# Altium footprint library Mako DSP PCB Footprint Library.PcbLib: 28 footprints (part 2 of 2)
Each footprint in its own frame and in the unit in brackets; x right, y up, seen from the top. Pads: shape width x height; smd on the part's side, far side on the other; paste and mask are expansions set on the pad; w line width, h text height; cw(c..) or ccw(c..) is an arc to the next point about the centre after c.
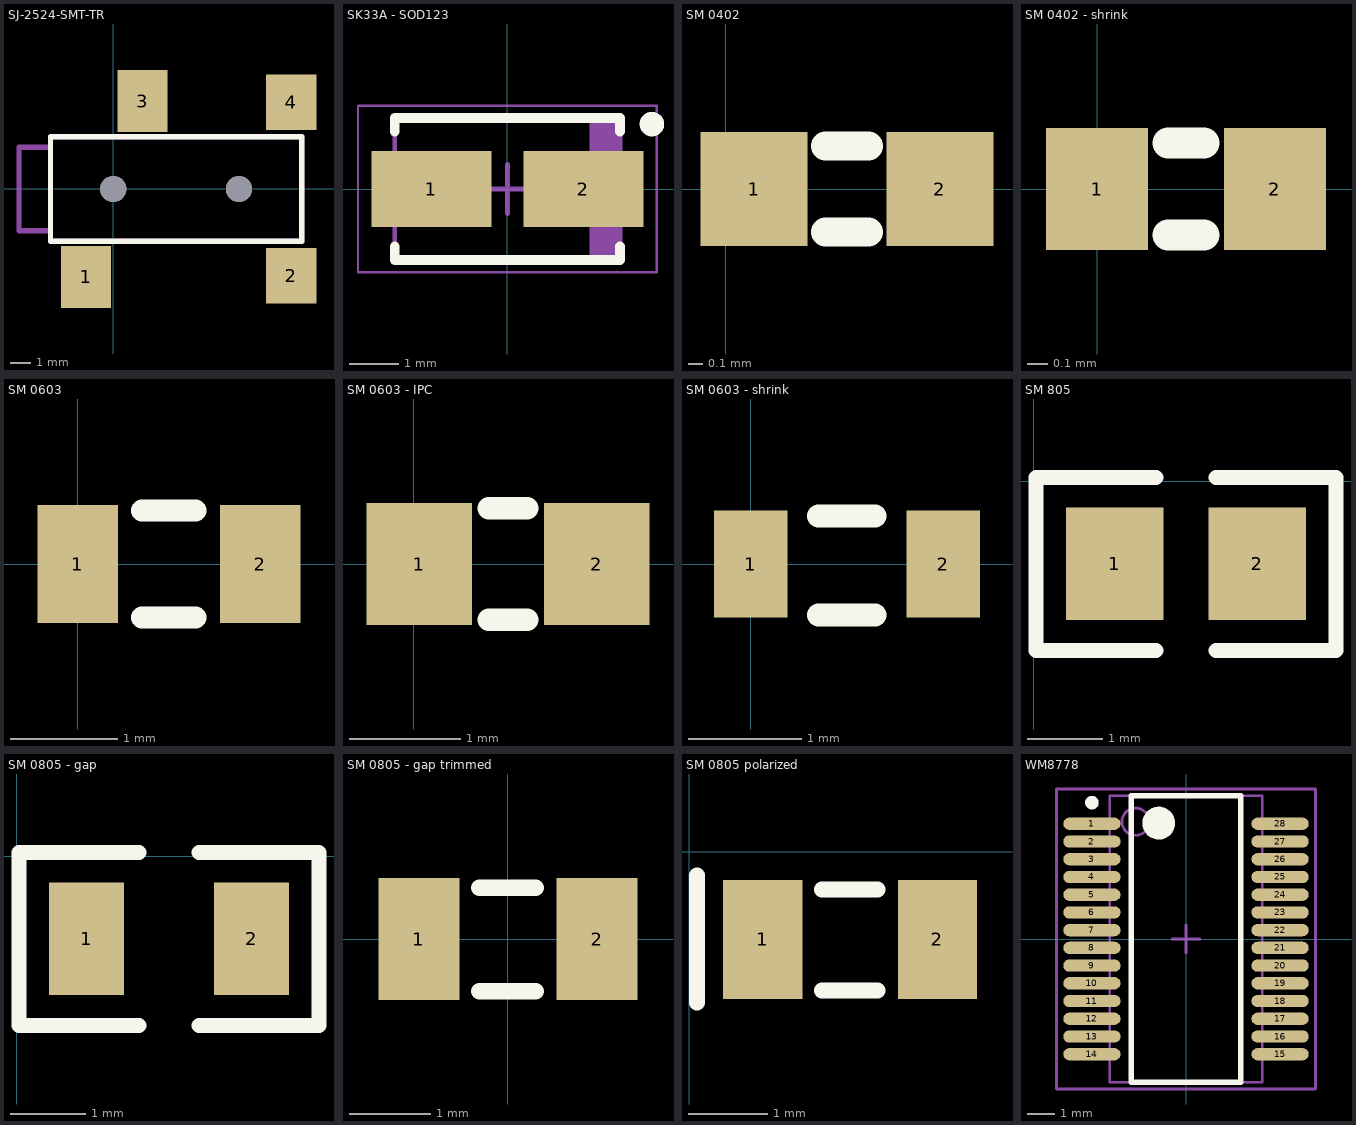
[diagram p1: the footprints below, top view; thin cyan lines are the x and y axes]

## SJ-2524-SMT-TR [mm] "2.5mm Stereo Jack SMD"
pads (6):
  rect 2.4x2.95 smd: 1(-1.3,-4.2) 3(1.4,4.2)
  rect 2.4x2.65 smd: 2(8.5,-4.15) 4(8.5,4.15)
  round 1.25 hole 1.25: ""(0,0) ""(6,0)
Top Overlay:
  lines w0.254: -3,-2.5 9,-2.5 9,0 9,2.5 -3,2.5 -3,2 -3,-2 -3,-2.5
Mechanical 13:
  lines w0.254: -4.5,-2 -4.5,2 -3,2 -3,2.5 9,2.5 9,0 9,-2.5 -3,-2.5 -3,-2 -4.5,-2
3D body: height 4.63, standoff -0.67, extent -4.483,-4 9.017,4

## SK33A - SOD123 [mm] "Molded Diode, 2-Leads, Body 4.30x2.70mm, IPC Medium Density"
height 2.44
pads (2):
  rect 2.45x1.55 smd: 1(-1.55,0) 2(1.55,0)
Top Overlay:
  circle w0.25: c2.95,1.325 r0.125
  lines w0.2: -2.3,-1.175 -2.3,-1.45 2.3,-1.45 2.3,-1.175 ; -2.3,1.175 -2.3,1.45 2.3,1.45 2.3,1.175
Mechanical 13:
  rectangle: 1.681,-1.45 2.3,1.45
  lines w0.1: -2.3,-1.45 -2.3,1.45 2.3,1.45 2.3,-1.45 -2.3,-1.45
Mechanical 15:
  lines w0.05: -3.05,-1.7 -3.05,1.7 3.05,1.7 3.05,-1.7 -3.05,-1.7
  lines w0.1: -0.5,0 0.5,0 ; 0,-0.5 0,0.5
3D body: height 2.44, standoff 0, extent -2.3,-1.45 2.3,1.45

## SM 0402 [mm]
pads (2):
  rect 0.75x0.8 smd: 1(0.2,0) 2(1.5,0)
Top Overlay:
  lines w0.203: 0.7,-0.3 1,-0.3 ; 0.7,0.3 1,0.3

## SM 0402 - shrink [mm]
pads (2):
  rect 0.5x0.6 smd mask+0.051: 1(0,0) 2(0.875,0)
Top Overlay:
  lines w0.152: 0.35,-0.225 0.525,-0.225 ; 0.35,0.225 0.525,0.225

## SM 0603 [mm]
pads (2):
  rect 0.75x1.1 smd: 1(0,0) 2(1.704,0)
Top Overlay:
  lines w0.203: 0.6,-0.5 1.1,-0.5 ; 0.6,0.5 1.1,0.5

## SM 0603 - IPC [mm]
pads (2):
  rect 0.95x1.1 smd: 1(0.05,0) 2(1.65,0)
Top Overlay:
  lines w0.203: 0.675,-0.5 1.025,-0.5 ; 0.675,0.5 1.025,0.5

## SM 0603 - shrink [mm]
pads (2):
  rect 0.65x0.95 smd: 1(0,0) 2(1.704,0)
Top Overlay:
  lines w0.203: 0.6,-0.45 1.1,-0.45 ; 0.6,0.425 1.1,0.425

## SM 805 [mm]
pads (2):
  rect 1.3x1.5 smd: 1(1.079,-1.105) 2(2.979,-1.105)
Top Overlay:
  lines w0.2: 1.629,-2.255 0.029,-2.255 0.029,0.045 1.629,0.045 ; 2.429,-2.255 4.029,-2.255 4.029,0.045 2.429,0.045

## SM 0805 - gap [mm]
pads (2):
  rect 1x1.5 smd: 1(0.93,-1.105) 2(3.13,-1.105)
Top Overlay:
  lines w0.2: 1.629,-2.255 0.029,-2.255 0.029,0.045 1.629,0.045 ; 2.429,-2.255 4.029,-2.255 4.029,0.045 2.429,0.045

## SM 0805 - gap trimmed [mm]
pads (2):
  rect 1x1.5 smd: 1(-1.1,0) 2(1.1,0)
Top Overlay:
  lines w0.203: -0.355,-0.645 0.345,-0.645 ; -0.355,0.63 0.345,0.63

## SM 0805 polarized [mm]
pads (2):
  rect 1x1.5 smd: 1(0.93,-1.105) 2(3.13,-1.105)
Top Overlay:
  lines w0.203: 0.1,-1.9 0.1,-0.3 ; 1.675,-1.75 2.375,-1.75 ; 1.675,-0.475 2.375,-0.475

## WM8778 [mm] "SOP, 28 Pin Wolfson Audio WM8778 Audio Codec"
height 2
pads (28):
  oval 2.1x0.45 smd: 1(-3.45,4.225) 2(-3.45,3.575) 3(-3.45,2.925) 4(-3.45,2.275) 5(-3.45,1.625) 6(-3.45,0.975) 7(-3.45,0.325) 8(-3.45,-0.325) 9(-3.45,-0.975) 10(-3.45,-1.625) 11(-3.45,-2.275) 12(-3.45,-2.925) 13(-3.45,-3.575) 14(-3.45,-4.225) 15(3.45,-4.225) 16(3.45,-3.575) 17(3.45,-2.925) 18(3.45,-2.275) 19(3.45,-1.625) 20(3.45,-0.975) 21(3.45,-0.325) 22(3.45,0.325) 23(3.45,0.975) 24(3.45,1.625) 25(3.45,2.275) 26(3.45,2.925) 27(3.45,3.575) 28(3.45,4.225)
Top Overlay:
  circle w0.6: c-1,4.25 r0.3
  circle w0.25: c-3.45,5 r0.125
  lines w0.2: -2,-5.25 2,-5.25 2,5.25 -2,5.25 -2,-5.25
Mechanical 13:
  circle w0.1: c-1.85,4.3 r0.5
  lines w0.1: -2.8,-5.25 2.8,-5.25 2.8,5.25 -2.8,5.25 -2.8,-5.25
Mechanical 15:
  lines w0.1: -0.5,0 0.5,0 ; 0,-0.5 0,0.5 ; -4.75,-5.5 4.75,-5.5 4.75,5.5 -4.75,5.5 -4.75,-5.5
3D body: height 2, standoff 0.05, extent -2.8,-5.25 2.8,5.25